# EAGLE library part SL811 (library sl811)
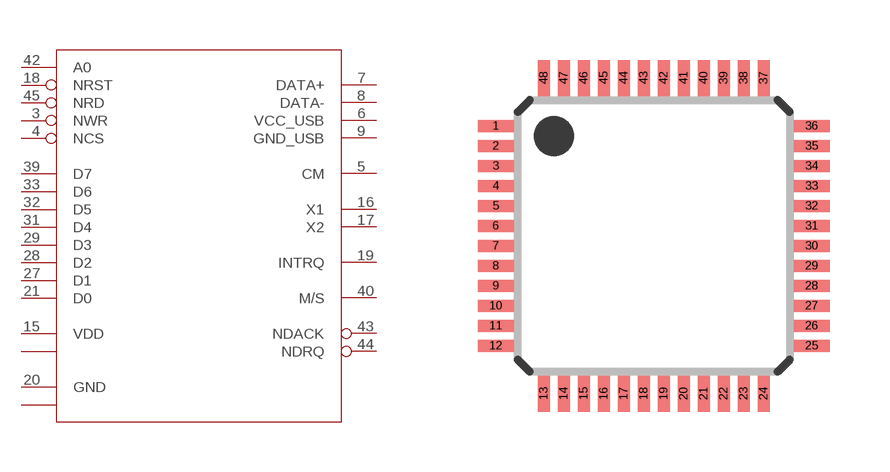
[diagram p0: symbol with the pads of TQFP48_7X7; footprint TQFP48_7X7]

Designator prefix -

## SL811  [TQFP48_7X7]
3  NWR  in
4  NCS  in
5  CM  in
6  VCC_USB  pwr
7  DATA+
8  DATA-
9  GND_USB  pwr
15  VDD  pwr
16  X1  in
17  X2  out
18  NRST  in
19  INTRQ  out
20  GND  pwr
21  D0
27  D1
28  D2
29  D3
30  GND1  pwr
31  D4
32  D5
33  D6
39  D7
40  M/S  in
41  VDD1  pwr
42  A0  in
43  NDACK  in
44  NDRQ  out
45  NRD  in

## Footprint TQFP48_7X7 (pad centres in mm)
smd 0.9 x 0.3: 1 -3.95,2.75; 2 -3.95,2.25; 3 -3.95,1.75; 4 -3.95,1.25; 5 -3.95,0.75; 6 -3.95,0.25; 7 -3.95,-0.25; 8 -3.95,-0.75; 9 -3.95,-1.25; 10 -3.95,-1.75; 11 -3.95,-2.25; 12 -3.95,-2.75; 25 3.95,-2.75; 26 3.95,-2.25; 27 3.95,-1.75; 28 3.95,-1.25; 29 3.95,-0.75; 30 3.95,-0.25; 31 3.95,0.25; 32 3.95,0.75; 33 3.95,1.25; 34 3.95,1.75; 35 3.95,2.25; 36 3.95,2.75
smd 0.3 x 0.9: 13 -2.75,-3.95; 14 -2.25,-3.95; 15 -1.75,-3.95; 16 -1.25,-3.95; 17 -0.75,-3.95; 18 -0.25,-3.95; 19 0.25,-3.95; 20 0.75,-3.95; 21 1.25,-3.95; 22 1.75,-3.95; 23 2.25,-3.95; 24 2.75,-3.95; 37 2.75,3.95; 38 2.25,3.95; 39 1.75,3.95; 40 1.25,3.95; 41 0.75,3.95; 42 0.25,3.95; 43 -0.25,3.95; 44 -0.75,3.95; 45 -1.25,3.95; 46 -1.75,3.95; 47 -2.25,3.95; 48 -2.75,3.95